# Altium schematic symbol library AC_CAP_L.SchLib: 1 symbol
Pins are listed as number, name and electrical type; pins without a type are passive.

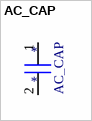
[diagram p0: symbol AC_CAP]

## AC_CAP
designator *
footprint AC_CAP_P
pins: 1, 2